# Altium footprint library TO127P2020X500X2100-15.PcbLib: 1 footprints
Each footprint in its own frame and in the unit in brackets; x right, y up, seen from the top. Pads: shape width x height; smd on the part's side, far side on the other; paste and mask are expansions set on the pad; w line width, h text height; cw(c..) or ccw(c..) is an arc to the next point about the centre after c.
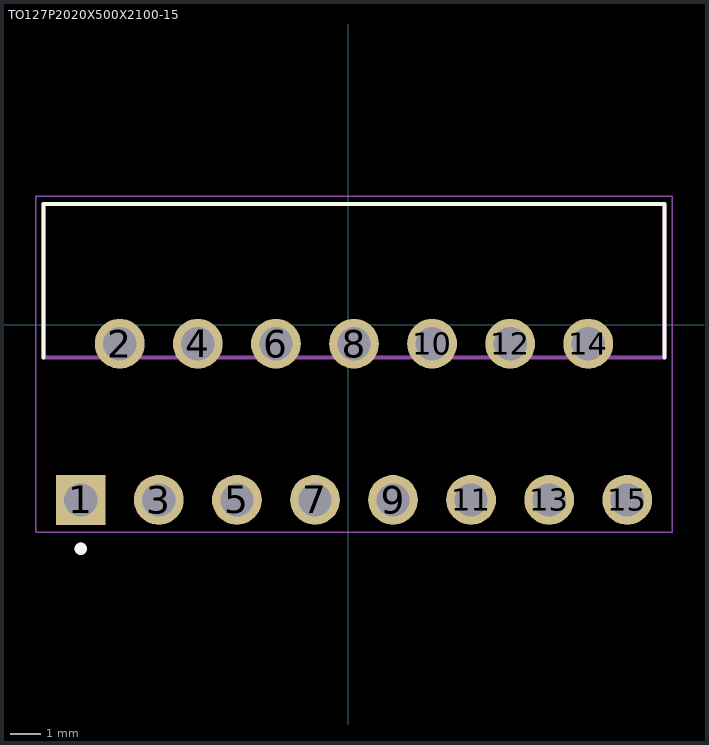
[diagram p0: the footprint, top view; thin cyan lines are the x and y axes]

## TO127P2020X500X2100-15 [mm]
pads (15):
  rect 1.62x1.62 hole 1.08: 1(-8.7,-5.7)
  round 1.62 hole 1.08: 2(-7.43,-0.62) 3(-6.16,-5.7) 4(-4.89,-0.62) 5(-3.62,-5.7) 6(-2.35,-0.62) 7(-1.08,-5.7) 8(0.19,-0.62) 9(1.46,-5.7) 10(2.73,-0.62) 11(4,-5.7) 12(5.27,-0.62) 13(6.54,-5.7) 14(7.81,-0.62) 15(9.08,-5.7)
Top Overlay:
  circle w0.2: c-8.7,-7.29 r0.1
  lines w0.127: -9.91,-1.07 -9.91,3.93 10.29,3.93 10.29,-1.07
Mechanical 13:
  circle w0.2: c-8.7,-7.29 r0.1
  lines w0.127: -9.91,-1.07 -9.91,3.93 10.29,3.93 10.29,-1.07 -9.91,-1.07
Mechanical 15:
  lines w0.05: -10.16,-6.76 10.54,-6.76 10.54,4.18 -10.16,4.18 -10.16,-6.76
3D body "L298N--3DModel-STEP-56544.STEP": height 22.5, standoff -2.47, extent -9.9,-5.89 10.3,4